# EAGLE library part ISP10 (library robot)
AVR ISP 10 Pin connector Included Efrei Robotique extensions
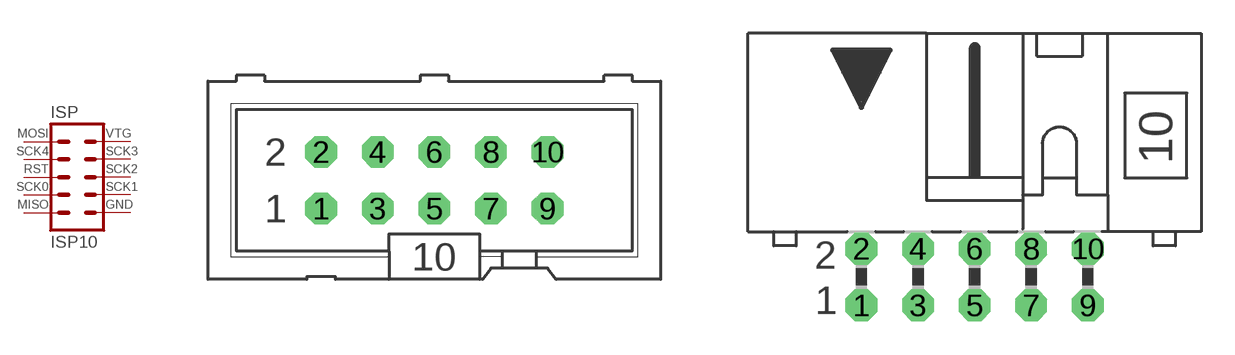
[diagram p1: symbol with the pads of ML10; footprints ML10, ML10L]

Designator prefix ISP

## ISP10  [ML10]
1  MOSI  out
2  VTG  pwr
3  SCK4  nc
4  SCK3  nc
5  RST  out
6  SCK2  nc
7  SCK0  out
8  SCK1  nc
9  MISO  out
10  GND  pwr

## ISP10L  [ML10L]
Pads as for ML10

## Footprint ML10 (pad centres in mm)
HARTING
drill 0.914 octagon: 1 -5.08,-1.27; 2 -5.08,1.27; 3 -2.54,-1.27; 4 -2.54,1.27; 5 0,-1.27; 6 0,1.27; 7 2.54,-1.27; 8 2.54,1.27; 9 5.08,-1.27; 10 5.08,1.27

## Footprint ML10L (pad centres in mm)
HARTING
drill 0.914 octagon: 1 -5.08,-1.27; 2 -5.08,1.27; 3 -2.54,-1.27; 4 -2.54,1.27; 5 0,-1.27; 6 0,1.27; 7 2.54,-1.27; 8 2.54,1.27; 9 5.08,-1.27; 10 5.08,1.27